# Altium schematic symbol library GENERIC_PNP_CEB.Schlib: 1 symbol
Pins are listed as number, name and electrical type; pins without a type are passive.

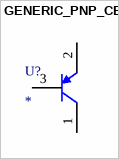
[diagram p0: symbol GENERIC_PNP_CEB]

## GENERIC_PNP_CEB
designator U?
pins: 1 C, 2 E, 3 B